# Altium footprint library PowerLib.PcbLib: 17 footprints (part 2 of 2)
Each footprint in its own frame and in the unit in brackets; x right, y up, seen from the top. Pads: shape width x height; smd on the part's side, far side on the other; paste and mask are expansions set on the pad; w line width, h text height; cw(c..) or ccw(c..) is an arc to the next point about the centre after c.
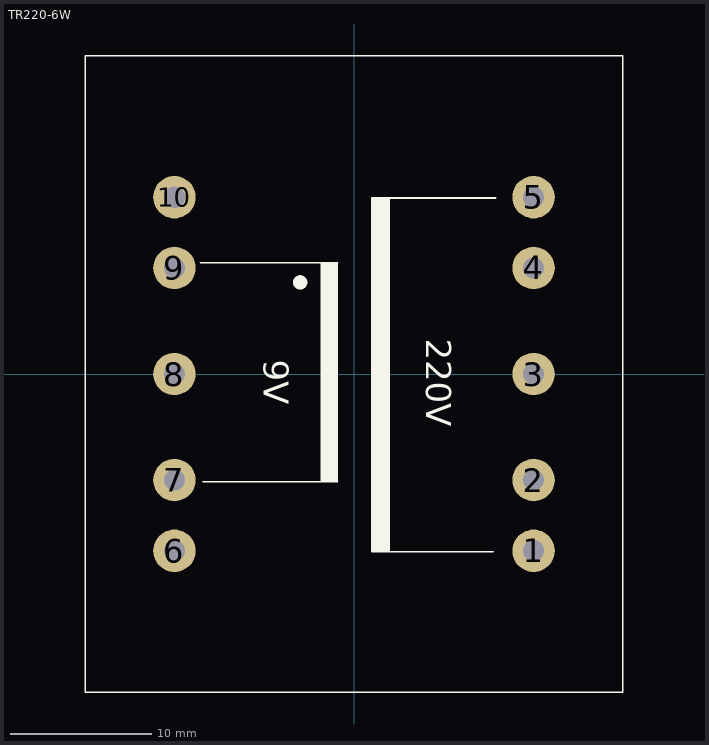
[diagram p1: the footprint, top view; thin cyan lines are the x and y axes]

## TR220-6W [mm]
height 40
pads (10):
  round 3 hole 1.5: 1(12.7,-12.5) 2(12.7,-7.5) 3(12.7,0) 4(12.7,7.5) 5(12.7,12.5) 6(-12.7,-12.5) 7(-12.7,-7.5) 8(-12.7,0) 9(-12.7,7.5) 10(-12.7,12.5)
Top Overlay:
  circle w0.508: c-3.81,6.477 r0.254
  rectangle: 1.27,-12.573 2.54,12.446
  rectangle: -2.373,-7.62 -1.143,7.874
  lines w0.127: -10.873,7.874 -1.143,7.874 ; -10.668,-7.62 -1.143,-7.62 ; 9.84,-12.573 1.27,-12.573 1.27,12.446 10,12.446 ; -19,-22.5 19,-22.5 19,22.5 -19,22.5 -19,-22.5
  text "9V" at -7,1 h3
  text "220V" at 4.5,2.5 h3
3D body: height 28.5, standoff 0, extent -19,-22.5 19,22.5
3D body: height 34.5, standoff 28.5, extent -15,-16 15,16